# Altium schematic symbol library USB2514B-AEZG.SchLib: 2 symbols
Pins are listed as number, name and electrical type; pins without a type are passive.

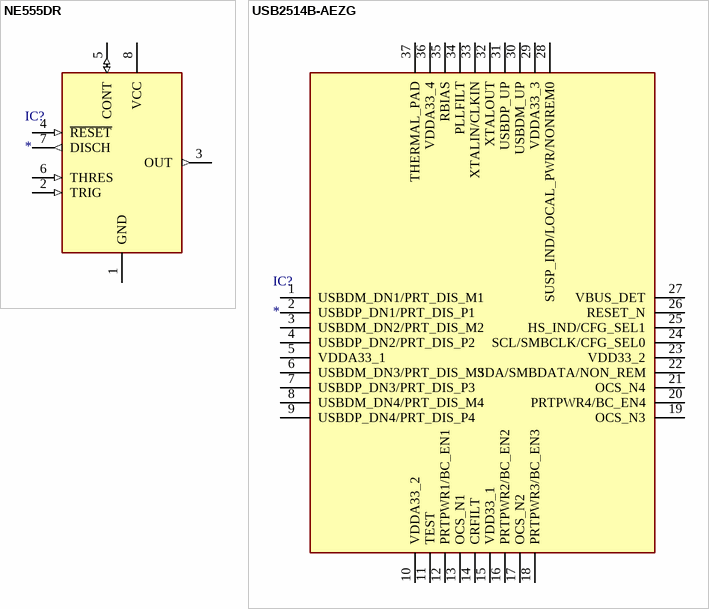
[diagram p0: symbols NE555DR to USB2514B-AEZG]

## NE555DR
designator IC?
Integrated Circuit; Manufacturer_Name: Texas Instruments; Manufacturer_Part_Number: NE555DR; Datasheet Link: http://www.ti.com/lit/ds/symlink/ne555.pdf; Height: 1.75mm; Mouser Part Number: 595-NE555DR; Mouser Price/Stock: https://www.mouser.com/Search/Refine.aspx?Keyword=595-NE555DR; RS Part Number: 1218414; RS Price/Stock: http://uk.rs-online.com/web/p/products/1218414
footprint SOIC127P600X175-8N
pins: 1 GND (power), 2 TRIG (in), 3 OUT (out), 4 ~{RESET} (in), 5 CONT (io), 6 THRES (in), 7 DISCH (out), 8 VCC (power)

## USB2514B-AEZG
designator IC?
Integrated Circuit; Manufacturer_Name: Microchip; Manufacturer_Part_Number: USB2514B-AEZG; Description: USB 2.0 Hi-Speed Hub Controller; Datasheet Link: http://ww1.microchip.com/downloads/en/DeviceDoc/00001692C.pdf; Height: 1mm; Mouser Part Number: 886-USB2514B-AEZG; Mouser Price/Stock: https://www.mouser.co.uk/ProductDetail/Microchip-Technology/USB2514B-AEZG?qs=ydWXD%252B8LvLCxuNqQPTEcVA%3D%3D; Arrow Part Number: USB2514B-AEZG; Arrow Price/Stock: https://www.arrow.com/en/products/usb2514b-aezg/microchip-technology?region=nac
footprint QFN50P600X600X100-37N-D
pins: 1 USBDM_DN1/PRT_DIS_M1, 2 USBDP_DN1/PRT_DIS_P1, 3 USBDM_DN2/PRT_DIS_M2, 4 USBDP_DN2/PRT_DIS_P2, 5 VDDA33_1, 6 USBDM_DN3/PRT_DIS_M3, 7 USBDP_DN3/PRT_DIS_P3, 8 USBDM_DN4/PRT_DIS_M4, 9 USBDP_DN4/PRT_DIS_P4, 10 VDDA33_2, 11 TEST, 12 PRTPWR1/BC_EN1, 13 OCS_N1, 14 CRFILT, 15 VDD33_1, 16 PRTPWR2/BC_EN2, 17 OCS_N2, 18 PRTPWR3/BC_EN3, 19 OCS_N3, 20 PRTPWR4/BC_EN4, 21 OCS_N4, 22 SDA/SMBDATA/NON_REM, 23 VDD33_2, 24 SCL/SMBCLK/CFG_SEL0, 25 HS_IND/CFG_SEL1, 26 RESET_N, 27 VBUS_DET, 28 SUSP_IND/LOCAL_PWR/NONREM0, 29 VDDA33_3, 30 USBDM_UP, 31 USBDP_UP, 32 XTALOUT, 33 XTALIN/CLKIN, 34 PLLFILT, 35 RBIAS, 36 VDDA33_4, 37 THERMAL_PAD